# EAGLE library part MPU6000 (library daGloane)
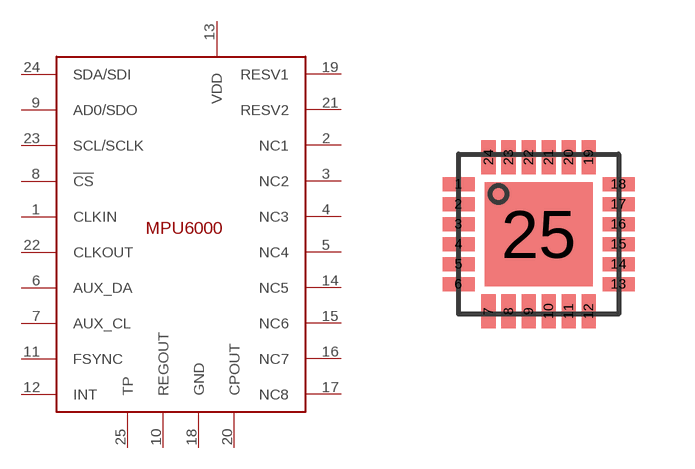
[diagram p5: symbol with the pads of MPU6000; footprint MPU6000]

Designator prefix -

## MPU6000  [MPU6000]
1  CLKIN  in
2  NC1  nc
3  NC2  nc
4  NC3  nc
5  NC4  nc
6  AUX_DA
7  AUX_CL  out
8  !CS  in
9  AD0/SDO  out
10  REGOUT
11  FSYNC  in
12  INT  out
13  VDD  pwr
14  NC5  nc
15  NC6  nc
16  NC7  nc
17  NC8  nc
18  GND  pwr
19  RESV1  nc
20  CPOUT
21  RESV2  nc
22  CLKOUT  out
23  SCL/SCLK  in
24  SDA/SDI  in
25  TP

## Footprint MPU6000 (pad centres in mm)
smd 0.8 x 0.35: 1 -2,1.25; 2 -2,0.75; 3 -2,0.25; 4 -2,-0.25; 5 -2,-0.75; 6 -2,-1.25; 13 2,-1.25; 14 2,-0.75; 15 2,-0.25; 16 2,0.25; 17 2,0.75; 18 2,1.25
smd 0.35 x 0.85: 7 -1.25,-1.925; 8 -0.75,-1.925; 9 -0.25,-1.925; 10 0.25,-1.925; 11 0.75,-1.925; 12 1.25,-1.925; 19 1.25,1.925; 20 0.75,1.925; 21 0.25,1.925; 22 -0.25,1.925; 23 -0.75,1.925; 24 -1.25,1.925
smd 2.7 x 2.6: 25 0,0